# Altium footprint library PCB_Library.PcbLib: 10 footprints
Each footprint in its own frame and in the unit in brackets; x right, y up, seen from the top. Pads: shape width x height; smd on the part's side, far side on the other; paste and mask are expansions set on the pad; w line width, h text height; cw(c..) or ccw(c..) is an arc to the next point about the centre after c.
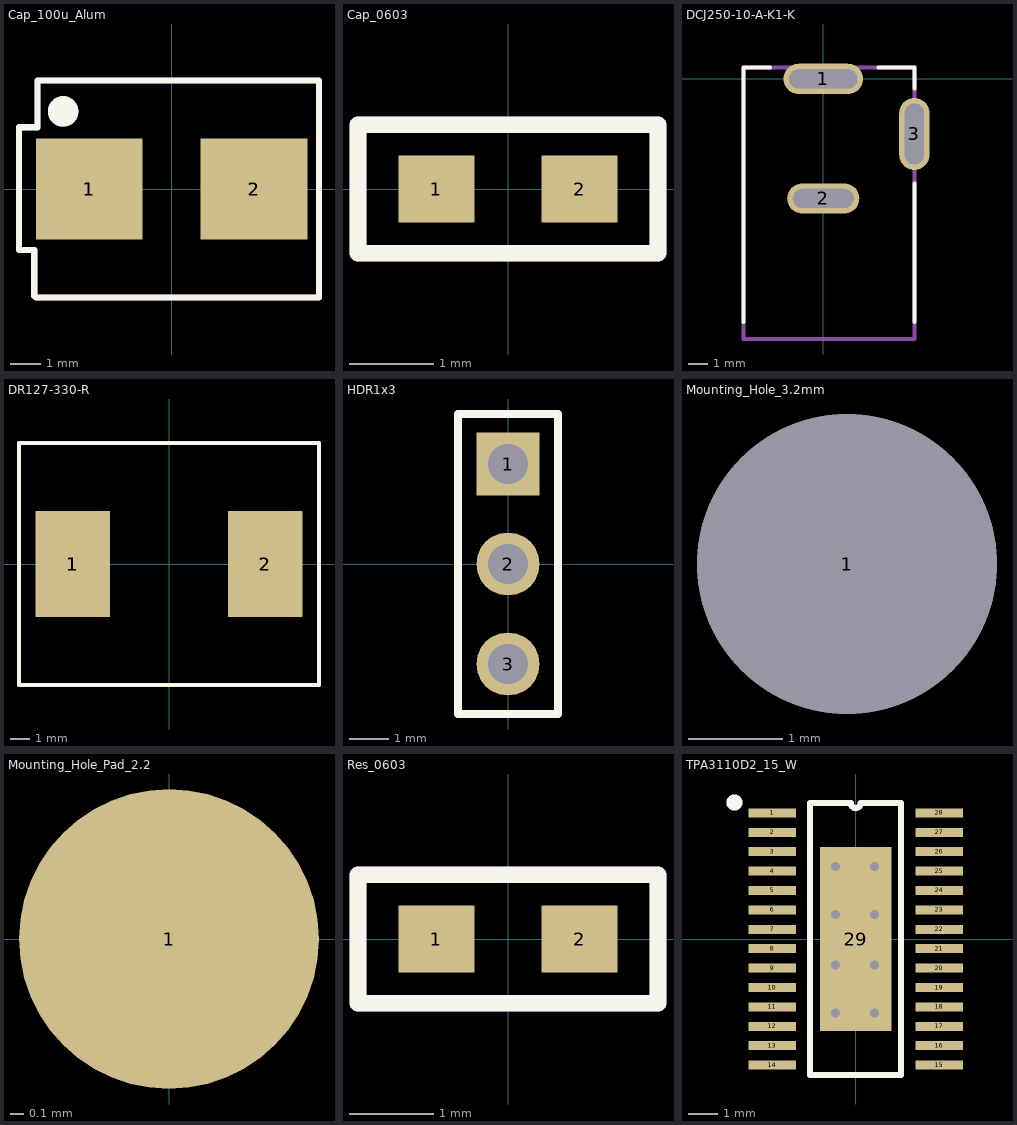
[diagram p0: the footprints below, top view; thin cyan lines are the x and y axes]

## Cap_100u_Alum [mm]
pads (4):
  rect 3.5x3.3 smd: 1(-2.7,0) 2(2.7,0)
  rect 3.5x3.3 on Top Paste: 1(-2.7,0) 2(2.7,0)
Top Overlay:
  circle w0.5: c-3.556,2.54 r0.25
  lines w0.2: -4.5,-3.5 -4.5,-2 -5,-2 -5,-1.778 -5,1.778 -5,2.022 -4.4,2.022 -4.4,3.556 4.826,3.556 4.826,-3.556 -2.54,-3.556 -3.683,-3.556 -4.444,-3.556
Top Assembly:
  circle w0.5: c-3.556,2.54 r0.25
  circle w0.5: c-3.556,2.54 r0.25
  lines w0.2: -4.5,-3.5 -4.5,-2 -5,-2 -5,-1.778 -5,1.778 -5,2.022 -4.4,2.022 -4.4,3.556 4.826,3.556 ; -4.444,-3.556 -3.683,-3.556 -2.54,-3.556 4.826,-3.556 ; 4.826,-3.556 4.826,3.556 ; 4.826,-3.556 4.826,3.556
  text ".Designator" at 0.1,0.333 h0.7
3D body "CAP_MZR_F80_NIP.step": height 8.05, standoff 0, extent -3.639,-3.421 3.753,3.387

## Cap_0603 [mm]
pads (2):
  rect 0.9x0.8 smd: 1(-0.85,0) 2(0.85,0)
Top Overlay:
  lines w0.2: -1.778,-0.762 1.778,-0.762 1.778,0.762 -1.778,0.762 -1.778,-0.762
Top Assembly:
  lines w0.2: -1.778,-0.762 1.778,-0.762 1.778,0.762 -1.778,0.762 -1.778,-0.762
  text ".Designator" at -3.499,-0.233 h0.7
3D body "CAPC1608X90N.step": height 0.91, standoff 0.01, extent -0.8,-0.4 0.8,0.4

## DCJ250-10-A-K1-K [mm]
pads (3):
  oval 4.2x1.6 hole 1 slot 3.6 at 0 deg: 1(0,0)
  oval 3.8x1.6 hole 1 slot 3.2 at 0 deg: 2(0,-6.3)
  oval 1.6x3.8 hole 1 slot 3.2 at 90 deg: 3(4.8,-2.9)
Top Overlay:
  lines w0.2: -4.2,-12.8 -4.2,0.6 -2.8,0.6 ; 2.9,0.6 4.8,0.6 4.8,-0.5 ; 4.8,-12.8 4.8,-5.5
Top Assembly:
  lines w0.2: -4.2,-13.7 4.8,-13.7 4.8,-5.5 4.8,-0.5 4.8,0.6 2.9,0.6 -2.8,0.6 -4.2,0.6 -4.2,-13.7
  text ".Designator" at -3.71,-9.827 h0.7
3D body "DCJ250-10-A-K1-K.STEP": height 10.86, standoff -3.64, extent -4.475,-13.678 5.075,0.622

## DR127-330-R [mm]
pads (4):
  rect 3.85x5.5 smd: 1(-4.975,0) 2(4.975,0)
  rect 3.85x5.5 on Top Paste: 1(-4.975,0) 2(4.975,0)
Top Overlay:
  lines w0.2: -7.75,-6.25 -7.75,2.025 -7.75,6.25 7.75,6.25 7.75,-6.25 -7.75,-6.25
Top Assembly:
  lines w0.2: -7.75,-6.25 -7.75,2.025 -7.75,6.25 7.75,6.25 7.75,-6.25 -7.75,-6.25
3D body "IND_DR127-330-R_EAT.step": height 8, standoff 0, extent -6.248,-6.248 6.248,6.248

## HDR1x3 [mm]
pads (3):
  rect 1.6x1.6 hole 1.02: 1(0,2.54)
  round 1.6 hole 1.02: 2(0,0) 3(0,-2.54)
Top Overlay:
  lines w0.2: -1.27,-3.81 -1.27,3.81 1.27,3.81 1.27,-3.81 -1.27,-3.81
Top Assembly:
  lines w0.2: -1.27,-3.81 -1.27,3.81 1.27,3.81 1.27,-3.81 -1.27,-3.81
  text ".Designator" at -5.998,-0.4 h1.2
3D body "M20-9990345.STEP": height 8.75, standoff -2.99, extent -1.27,-3.81 1.27,3.81

## Mounting_Hole_3.2mm [mm]
pads (1):
  round 3.2 hole 3.2: 1(-454.914,14.605)

## Mounting_Hole_Pad_2.2 [mm]
pads (1):
  round 2.2 smd: 1(0,0)

## PCBComponent_1 [mm]

## Res_0603 [mm]
pads (2):
  rect 0.9x0.8 smd: 1(-0.85,0) 2(0.85,0)
Top Overlay:
  lines w0.2: -1.778,-0.762 -1.778,0.762 1.778,0.762 1.778,-0.762 -1.778,-0.762
Top Assembly:
  lines w0.2: -1.778,-0.762 -1.778,0.762 1.778,0.762 1.778,-0.762 -1.778,-0.762
  text ".Designator" at -3.499,-0.233 h0.7
3D body "RC0603FR-07100KL.step": height 0.56, standoff 0.01, extent -0.8,-0.4 0.8,0.4

## TPA3110D2_15_W [mm]
pads (29):
  rect 1.6x0.3 smd paste+0 mask+0.06: 1(-2.8,4.225) 2(-2.8,3.575) 3(-2.8,2.925) 4(-2.8,2.275) 5(-2.8,1.625) 6(-2.8,0.975) 7(-2.8,0.325) 8(-2.8,-0.325) 9(-2.8,-0.975) 10(-2.8,-1.625) 11(-2.8,-2.275) 12(-2.8,-2.925) 13(-2.8,-3.575) 14(-2.8,-4.225) 15(2.8,-4.225) 16(2.8,-3.575) 17(2.8,-2.925) 18(2.8,-2.275) 19(2.8,-1.625) 20(2.8,-0.975) 21(2.8,-0.325) 22(2.8,0.325) 23(2.8,0.975) 24(2.8,1.625) 25(2.8,2.275) 26(2.8,2.925) 27(2.8,3.575) 28(2.8,4.225)
  rect 2.4x6.17 smd paste-2539.97 mask+0.102: 29(0,0)
via 0.625,-2.475 diameter 0.6 hole 0.3
via -0.675,-2.475 diameter 0.6 hole 0.3
via 0.625,-0.875 diameter 0.6 hole 0.3
via -0.675,-0.875 diameter 0.6 hole 0.3
via 0.625,0.827 diameter 0.6 hole 0.3
via -0.675,0.827 diameter 0.6 hole 0.3
via 0.625,2.427 diameter 0.6 hole 0.3
via -0.675,2.427 diameter 0.6 hole 0.3
Top Overlay:
  circle w0.3: c-4.064,4.572 r0.12
  lines w0.2: -1.524,-4.55 -1.524,4.55 -0.162,4.55 ccw(c0,4.55) 0.162,4.55 1.524,4.55 1.524,-4.55 -1.524,-4.55
Top Paste:
  region: 2,4.075 2,4.375 3.6,4.375 3.6,4.075
  region: 2,3.425 2,3.725 3.6,3.725 3.6,3.425
  region: 2,2.775 2,3.075 3.6,3.075 3.6,2.775
  region: 2,2.125 2,2.425 3.6,2.425 3.6,2.125
  region: 2,1.475 2,1.775 3.6,1.775 3.6,1.475
  region: 2,0.825 2,1.125 3.6,1.125 3.6,0.825
  region: 2,0.175 2,0.475 3.6,0.475 3.6,0.175
  region: 2,-0.475 2,-0.175 3.6,-0.175 3.6,-0.475
  region: 2,-1.125 2,-0.825 3.6,-0.825 3.6,-1.125
  region: 2,-1.775 2,-1.475 3.6,-1.475 3.6,-1.775
  region: 2,-2.425 2,-2.125 3.6,-2.125 3.6,-2.425
  region: 2,-3.075 2,-2.775 3.6,-2.775 3.6,-3.075
  region: 2,-3.725 2,-3.425 3.6,-3.425 3.6,-3.725
  region: 2,-4.375 2,-4.075 3.6,-4.075 3.6,-4.375
Top Assembly:
  lines w0.2: -1.524,-4.55 -1.524,4.55 -0.162,4.55 ccw(c0,4.55) 0.162,4.55 1.524,4.55 1.524,-4.55 -1.524,-4.55
  text ".Designator" at 6.196,-4.747 h0.7
3D body "TPA3110D2PWP.step": height 1.21, standoff 0.01, extent -3.2,-4.85 3.2,4.85